# EAGLE library part HX20_CASSETTE (library hx20)
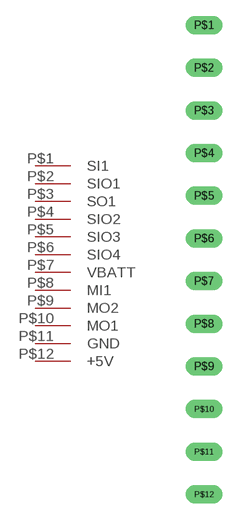
[diagram p0: symbol with the pads of HX20_CASSETTE; footprint HX20_CASSETTE]

Designator prefix -

## HX20_CASSETTE  [HX20_CASSETTE]
P$1  SI1
P$2  SIO1
P$3  SO1
P$4  SIO2
P$5  SIO3
P$6  SIO4
P$7  VBATT
P$8  MI1
P$9  MO2
P$10  MO1
P$11  GND
P$12  +5V

## Footprint HX20_CASSETTE (pad centres in mm)
drill 0.6 long: P$1 0,12.7; P$2 0,10.16; P$3 0,7.62; P$4 0,5.08; P$5 0,2.54; P$6 0,0; P$7 0,-2.54; P$8 0,-5.08; P$9 0,-7.62; P$10 0,-10.16; P$11 0,-12.7; P$12 0,-15.24